# Altium schematic symbol library MyRC.SchLib: 5 symbols
Pins are listed as number, name and electrical type; pins without a type are passive.

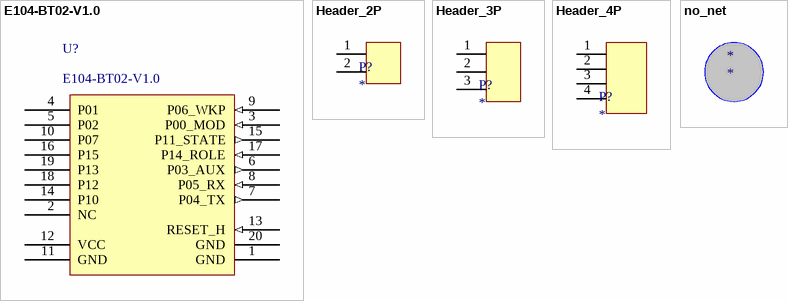
[diagram p0: symbols E104-BT02-V1.0 to no_net]

## E104-BT02-V1.0
designator U?
footprint E104-BT02-V1.0-20PIN (Footprint not found)
pins: 1 GND (power), 2 NC, 3 P00_MOD (in), 4 P01, 5 P02, 6 P03_AUX (out), 7 P04_TX (out), 8 P05_RX (in), 9 P06_WKP (in), 10 P07, 11 GND (power), 12 VCC (power), 13 RESET_H (in), 14 P10, 15 P11_STATE (out), 16 P15, 17 P14_ROLE (in), 18 P12, 19 P13, 20 GND (power)

## Header_2P
designator P?
footprint SMD_1.25T_3P
pins: 1, 2

## Header_3P
designator P?
footprint SMD_1.25T_3P
pins: 1, 2, 3

## Header_4P
designator P?
footprint SMD_1.25T_4P
pins: 1, 2, 3, 4

## no_net
designator *